# EAGLE library part THAT1646 (library that-corp)
Balanced Line Driver
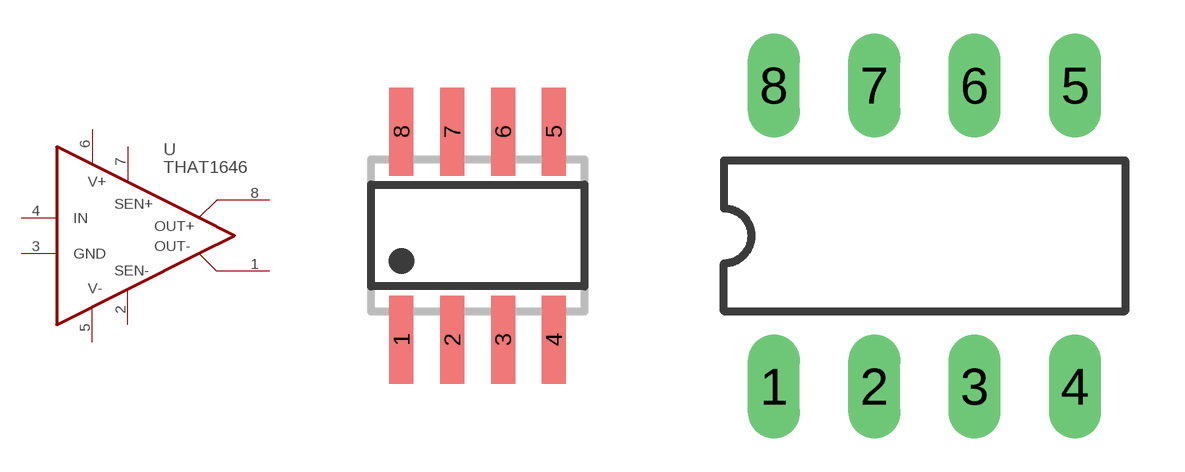
[diagram p14: symbol with the pads of SO08; footprints SO08, DIL08]

Designator prefix U

## THAT1646SO8-U  [SO08]
1  OUT-  out
2  SEN-  pas
3  GND  in
4  IN  in
5  V-  pwr
6  V+  pwr
7  SEN+  out
8  OUT+  out

## THAT1646P08-U  [DIL08]
Pads as for SO08

## THAT1646W16-U  [QSOP16]
3  OUT-  out
4  SEN-  pas
5  GND  in
6  IN  in
11  V-  pwr
12  V+  pwr
13  SEN+  out
14  OUT+  out

## Footprint SO08 (pad centres in mm)
SMALL OUTLINE INTEGRATED CIRCUIT body 3.9 mm/JEDEC MS-012AA
smd 0.6 x 2.2: 1 -1.905,-2.6; 2 -0.635,-2.6; 3 0.635,-2.6; 4 1.905,-2.6; 5 1.905,2.6; 6 0.635,2.6; 7 -0.635,2.6; 8 -1.905,2.6

## Footprint DIL08 (pad centres in mm)
Dual In Line Package
drill 0.813 long: 1 -3.81,-3.81; 2 -1.27,-3.81; 3 1.27,-3.81; 4 3.81,-3.81; 5 3.81,3.81; 6 1.27,3.81; 7 -1.27,3.81; 8 -3.81,3.81

## Footprint QSOP16 (pad centres in mm)
QSOP-16
smd 0.4 x 1.2: 1 -2.223,-2.75; 2 -1.588,-2.75; 3 -0.953,-2.75; 4 -0.318,-2.75; 5 0.318,-2.75; 6 0.953,-2.75; 7 1.588,-2.75; 8 2.223,-2.75; 9 2.223,2.75; 10 1.588,2.75; 11 0.953,2.75; 12 0.318,2.75; 13 -0.318,2.75; 14 -0.953,2.75; 15 -1.588,2.75; 16 -2.223,2.75